# Altium footprint library Misk.PcbLib: 5 footprints
Each footprint in its own frame and in the unit in brackets; x right, y up, seen from the top. Pads: shape width x height; smd on the part's side, far side on the other; paste and mask are expansions set on the pad; w line width, h text height; cw(c..) or ccw(c..) is an arc to the next point about the centre after c.
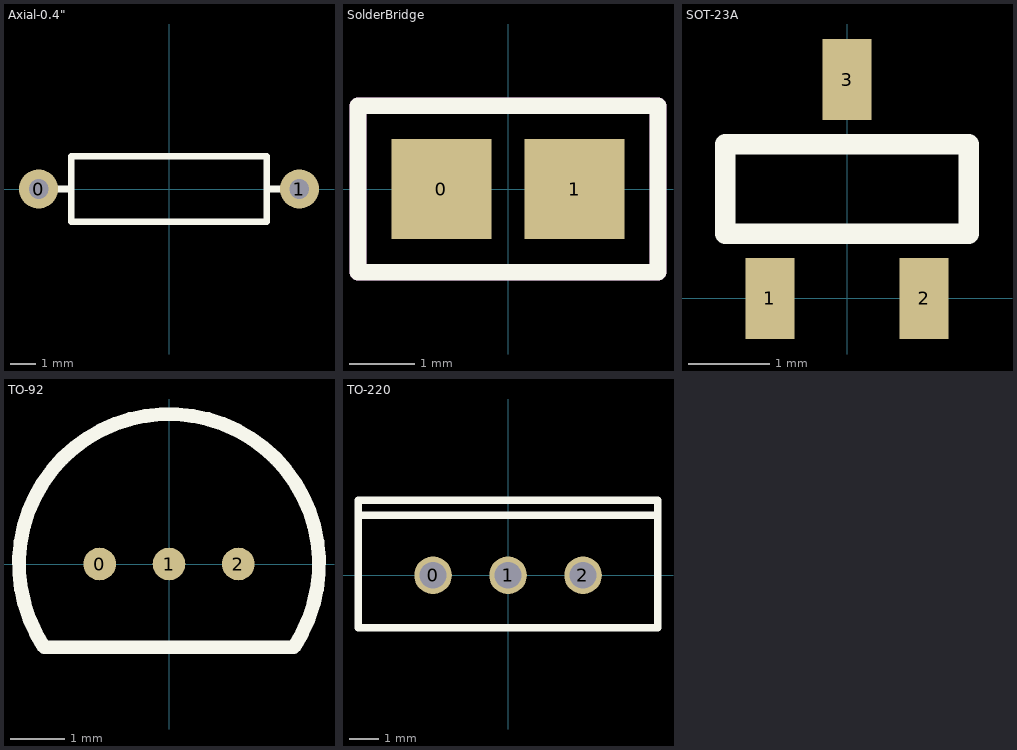
[diagram p0: the footprints below, top view; thin cyan lines are the x and y axes]

## Axial-0.4" [mil] "Axial 0.4\""
pads (2):
  round 60 hole 30: 0(-200,0) 1(200,0)
Top Overlay:
  lines w10: -200,0 -150,0 ; 150,0 200,0 ; -150,0 -150,-50 150,-50 150,50 -150,50 -150,0

## SolderBridge [mil] "SolderBridge"
pads (2):
  rect 60x60 smd: 0(-40,0) 1(40,0)
Top Overlay:
  lines w10: -90,-50 90,-50 90,50 -90,50 -90,-50
Keep-Out Layer:
  lines w10: -90,-50 90,-50 90,50 -90,50 -90,-50

## SOT-23A [mm]
pads (3):
  rect 0.6x1 smd: 1(-0.95,0) 2(0.95,0) 3(0,2.7)
Top Overlay:
  lines w0.254: -1.5,0.8 -1.5,1.9 1.5,1.9 1.5,0.8 -1.5,0.8
3D body "User Library-SOT95P280X135-3M[SOT23_TO-236AA].STEP": height 1.3, standoff 0, extent -1.5,-0.2 1.5,2.8

## TO-92 [mm]
pads (3):
  round 0.6 all layers, no hole: 0(-1.27,0) 1(0,0) 2(1.27,0)
Top Overlay:
  lines w0.254: -2.286,-1.524 cw(c0,0) 2.286,-1.524 -2.286,-1.524

## TO-220 [mm]
pads (3):
  round 1.27 hole 0.9: 0(-2.54,0) 1(0,0) 2(2.54,0)
Top Overlay:
  lines w0.254: -5.08,2.032 5.08,2.032 ; -5.08,-1.778 5.08,-1.778 5.08,2.54 -5.08,2.54 -5.08,-1.778